# Altium footprint library PowerModule.PcbLib: 13 footprints
Each footprint in its own frame and in the unit in brackets; x right, y up, seen from the top. Pads: shape width x height; smd on the part's side, far side on the other; paste and mask are expansions set on the pad; w line width, h text height; cw(c..) or ccw(c..) is an arc to the next point about the centre after c.
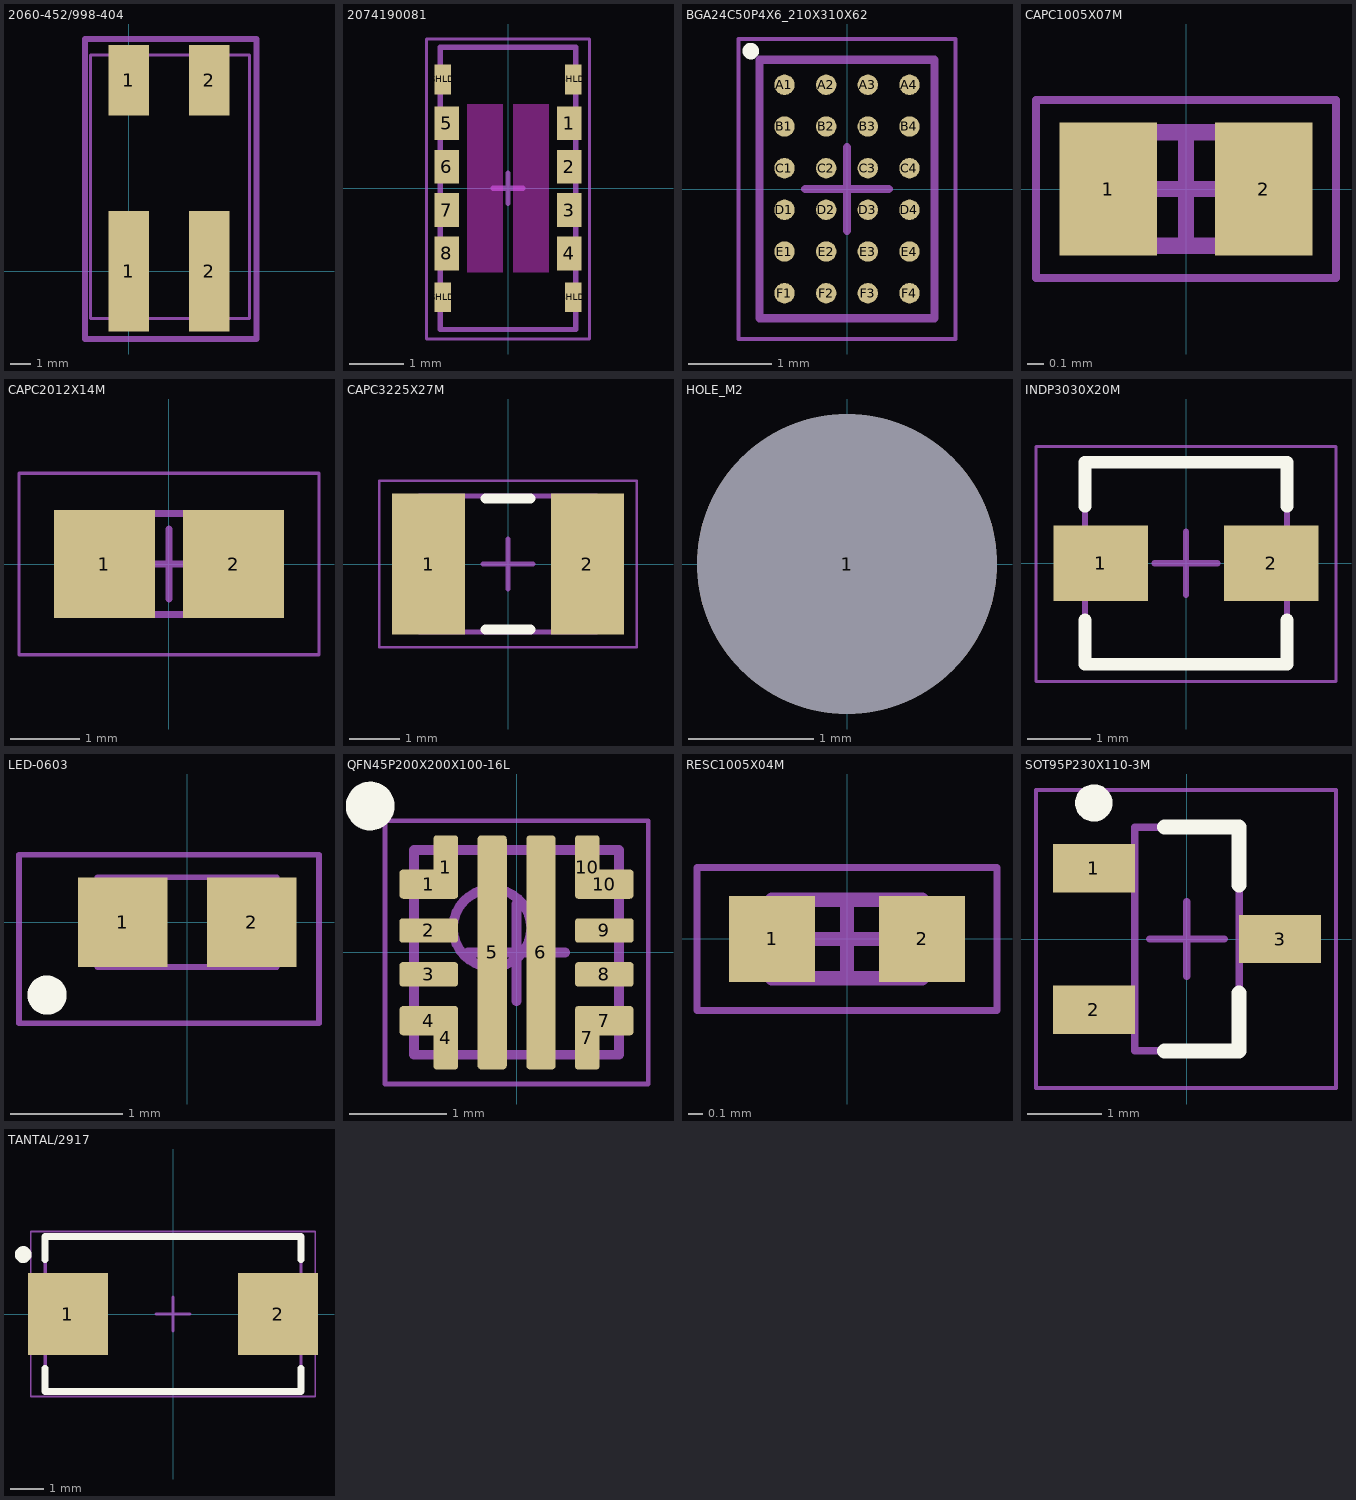
[diagram p0: the footprints below, top view; thin cyan lines are the x and y axes]

## 2060-452/998-404 [mm] "Connector"
height 0.4
pads (4):
  rect 2x6 smd mask+0.05: 1(0,0) 2(4,0)
  rect 2x3.5 smd mask+0.05: 1(0,9.5) 2(4,9.5)
Top Assembly:
  lines w0.15: -1.9,-2.35 6,-2.35 6,10.75 -1.9,10.75 -1.9,-2.35
Top Courtyard:
  lines w0.3: -2.175,-3.375 -2.175,11.55 6.35,11.55 6.35,-3.375 -2.175,-3.375
3D body "2060-452_998-404.stp": height 4.51, standoff 0.01, extent -1.9,-2.35 6,10.75

## 2074190081 [mm] "Connector"
height 0.4
pads (12):
  rect 0.45x0.62 smd mask+0.05: 1(1.125,1.2) 2(1.125,0.4) 3(1.125,-0.4) 4(1.125,-1.2) 5(-1.125,1.2) 6(-1.125,0.4) 7(-1.125,-0.4) 8(-1.125,-1.2)
  rect 0.3x0.55 smd mask+0.05: SHLD(-1.2,-2.005) SHLD(-1.2,2.005) SHLD(1.2,-2.005) SHLD(1.2,2.005)
Top Layer keep-out:
  region: -0.1,1.55 -0.75,1.55 -0.75,-1.55 -0.1,-1.55
  region: 0.1,1.55 0.75,1.55 0.75,-1.55 0.1,-1.55
Top Assembly:
  lines w0.1: -1.25,-2.6 1.25,-2.6 1.25,2.6 -1.25,2.6 -1.25,-2.6
Top Courtyard:
  lines w0.05: -1.5,-2.775 -1.5,2.75 1.5,2.75 1.5,-2.775 -1.5,-2.775
  lines w0.1: -0.275,0 0.275,0 ; 0,-0.275 0,0.275
3D body "2074190081.stp": height 0.74, standoff -0.01, extent -1.25,-2.6 1.25,2.6

## BGA24C50P4X6_210X310X62 [mm] "BGA, 24-Leads, Body 2.10x3.10mmx0.63mm, Pitch 0.50mm"
height 0.63
pads (24):
  round 0.245 smd paste-2539.97 mask+0.05: A1(-0.75,1.25) A2(-0.25,1.25) A3(0.25,1.25) A4(0.75,1.25) B1(-0.75,0.75) B2(-0.25,0.75) B3(0.25,0.75) B4(0.75,0.75) C1(-0.75,0.25) C2(-0.25,0.25) C3(0.25,0.25) C4(0.75,0.25) D1(-0.75,-0.25) D2(-0.25,-0.25) D3(0.25,-0.25) D4(0.75,-0.25) E1(-0.75,-0.75) E2(-0.25,-0.75) E3(0.25,-0.75) E4(0.75,-0.75) F1(-0.75,-1.25) F2(-0.25,-1.25) F3(0.25,-1.25) F4(0.75,-1.25)
Top Overlay:
  circle w0.1: c-1.155,1.655 r0.05
Top Paste:
  drawing of 240 lines, arcs and shapes, not listed
Top 3D Body:
  lines w0.1: -1.05,-1.55 -1.05,1.55 1.05,1.55 1.05,-1.55 -1.05,-1.55
Courtyard:
  lines w0.05: -1.3,-1.8 -1.3,1.8 1.3,1.8 1.3,-1.8 -1.3,-1.8
  lines w0.1: -0.5,0 0.5,0 ; 0,-0.5 0,0.5
3D body: height 0.63, standoff 0.15, extent -1.05,-1.55 1.05,1.55

## CAPC1005X07M [mm] "Chip Capacitor, 2-Leads, Body 1.00x0.50mm, IPC Low Density"
height 0.7
pads (2):
  rect 0.6x0.82 smd: 1(-0.48,0) 2(0.48,0)
Top Assembly:
  lines w0.1: -0.6,-0.35 -0.6,0.35 0.6,0.35 0.6,-0.35 -0.6,-0.35
Top Courtyard:
  lines w0.05: -0.925,-0.55 -0.925,0.55 0.925,0.55 0.925,-0.55 -0.925,-0.55
  lines w0.1: -0.35,0 0.35,0 ; 0,-0.35 0,0.35
3D body: height 0.7, standoff 0, extent -0.35,-0.35 0.35,0.35
3D body: height 0.7, standoff 0, extent -0.6,-0.35 -0.35,0.35
3D body: height 0.7, standoff 0, extent 0.35,-0.35 0.6,0.35

## CAPC2012X14M [mm] "Chip Capacitor, 2-Leads, Body 2.00x1.25mm, IPC Low Density"
height 1.45
pads (2):
  rect 1.45x1.55 smd: 1(-0.925,0) 2(0.925,0)
Top Assembly:
  lines w0.1: -1.1,-0.725 1.1,-0.725 1.1,0.725 -1.1,0.725 -1.1,-0.725
Top Courtyard:
  lines w0.05: -2.15,-1.3 2.15,-1.3 2.15,1.3 -2.15,1.3 -2.15,-1.3
  lines w0.1: -0.5,0 0.5,0 ; 0,-0.5 0,0.5
3D body: height 1.45, standoff 0, extent 0.65,-0.725 1.1,0.725
3D body: height 1.45, standoff 0, extent -1.1,-0.725 -0.65,0.725
3D body: height 1.45, standoff 0, extent -0.65,-0.725 0.65,0.725

## CAPC3225X27M [mm] "Chip Capacitor, 2-Leads, Body 3.20x2.50mm, IPC Low Density"
height 2.7
pads (2):
  rect 1.45x2.8 smd: 1(-1.575,0) 2(1.575,0)
Top Overlay:
  lines w0.2: -0.45,-1.3 0.45,-1.3 ; -0.45,1.3 0.45,1.3
Top Assembly:
  lines w0.1: -1.75,-1.35 -1.75,1.35 1.75,1.35 1.75,-1.35 -1.75,-1.35
Top Courtyard:
  lines w0.05: -2.55,-1.65 -2.55,1.65 2.55,1.65 2.55,-1.65 -2.55,-1.65
  lines w0.1: -0.5,0 0.5,0 ; 0,-0.5 0,0.5
3D body: height 2.7, standoff 0, extent -1.3,-1.35 1.3,1.35
3D body: height 2.7, standoff 0, extent -1.75,-1.35 -1.3,1.35
3D body: height 2.7, standoff 0, extent 1.3,-1.35 1.75,1.35

## HOLE_M2 [mm]
pads (1):
  round 2.4 hole 2.4 unplated: 1(0,0)

## INDP3030X20M [mm] "Precision Wire Wound Inductor, 2-Leads, Body 3.00x3.00mm, IPC Low Density"
height 2
pads (2):
  rect 1.5x1.2 smd: 1(-1.35,0) 2(1.35,0)
Top Overlay:
  lines w0.2: -1.6,-0.9 -1.6,-1.6 1.6,-1.6 1.6,-0.9 ; -1.6,0.9 -1.6,1.6 1.6,1.6 1.6,0.9
Top Assembly:
  lines w0.1: -1.6,-1.6 -1.6,1.6 1.6,1.6 1.6,-1.6 -1.6,-1.6
Top Courtyard:
  lines w0.05: -2.375,-1.875 -2.375,1.85 2.375,1.85 2.375,-1.875 -2.375,-1.875
  lines w0.1: -0.5,0 0.5,0 ; 0,-0.5 0,0.5
3D body "IND_IHLP-1212BZ_VIS.step": height 2.06, standoff 0, extent -1.803,-1.6 1.803,1.6

## LED-0603 [mm] "0603"
height 2.5
pads (2):
  rect 0.8x0.8 smd: 1(-0.575,0) 2(0.575,0)
Top Overlay:
  circle w0.25: c-1.25,-0.65 r0.05
Top Assembly:
  lines w0.05: -0.8,-0.4 0.8,-0.4 0.8,0.4 -0.8,0.4 -0.8,-0.4
Top Courtyard:
  lines w0.05: -1.5,-0.9 1.175,-0.9 1.175,0.6 -1.5,0.6 -1.5,-0.9
3D body "LTST-C191KGKT.step": height 0.56, standoff 0.01, extent -0.8,-0.4 0.8,0.4

## QFN45P200X200X100-16L [mm] "QFN, 16-Leads, Body 2.00x2.00mm, Pitch 0.45mm, IPC High Density"
height 1
pads (14):
  rrect25% 0.6x0.3 smd paste-0.009 mask+0.05: 1(-0.9,0.7) 4(-0.9,-0.7) 7(0.9,-0.7) 10(0.9,0.7)
  rrect25% 0.25x0.65 smd paste-0.009 mask+0.05: 1(-0.725,0.875) 4(-0.725,-0.875) 7(0.725,-0.875) 10(0.725,0.875)
  rrect25% 0.6x0.25 smd mask+0.05: 2(-0.9,0.225) 3(-0.9,-0.225) 8(0.9,-0.225) 9(0.9,0.225)
  rrect25% 0.3x2.4 smd paste-2539.97 mask+0.05: 5(-0.25,0) 6(0.25,0)
Top Overlay:
  circle w0.25: c-1.5,1.5 r0.125
Top Paste:
  region: 0.375,-0.075 0.125,-0.075 0.125,-1.175 0.375,-1.175
  rectangle: 0.125,0.075 0.375,1.175
  region: -0.125,-0.075 -0.375,-0.075 -0.375,-1.175 -0.125,-1.175
  rectangle: -0.375,0.075 -0.125,1.175
Top Assembly:
  circle w0.1: c-0.25,0.25 r0.4
  lines w0.1: -1.05,-1.05 1.05,-1.05 1.05,1.05 -1.05,1.05 -1.05,-1.05
Top Courtyard:
  lines w0.05: -1.35,-1.35 1.35,-1.35 1.35,1.35 -1.35,1.35 -1.35,-1.35
  lines w0.1: -0.5,0 0.5,0 ; 0,-0.5 0,0.5
3D body "RPW0010A.stp": height 1, standoff 0, extent -1,-1 1,1

## RESC1005X04M [mm] "Chip Resistor, 2-Leads, Body 1.00x0.50mm, IPC Low Density"
height 0.4
pads (2):
  rect 0.6x0.6 smd: 1(-0.525,0) 2(0.525,0)
Top Assembly:
  lines w0.1: -0.525,-0.275 0.525,-0.275 0.525,0.275 -0.525,0.275 -0.525,-0.275
Top Courtyard:
  lines w0.05: -1.05,-0.5 1.05,-0.5 1.05,0.5 -1.05,0.5 -1.05,-0.5
  lines w0.1: -0.275,0 0.275,0 ; 0,-0.275 0,0.275
3D body: height 0.4, standoff 0, extent 0.275,-0.275 0.525,0.275
3D body: height 0.4, standoff 0, extent -0.525,-0.275 -0.275,0.275
3D body: height 0.4, standoff 0, extent -0.275,-0.275 0.275,0.275

## SOT95P230X110-3M [mm] "SOT23, 3-Leads, Body 2.90x2.30mm, Pitch 0.95mm, IPC Low Density"
height 1.1
pads (3):
  rect 1.1x0.65 smd mask+0.05: 1(-1.25,0.95) 2(-1.25,-0.95) 3(1.25,0)
Top Overlay:
  circle w0.25: c-1.25,1.825 r0.125
  lines w0.2: -0.3,-1.5 0.7,-1.5 0.7,-0.725 ; -0.3,1.5 0.7,1.5 0.7,0.725
Top Assembly:
  lines w0.1: -0.7,-1.5 0.7,-1.5 0.7,1.5 -0.7,1.5 -0.7,-1.5
Top Courtyard:
  lines w0.05: -2.025,-2 2,-2 2,2 -2.025,2 -2.025,-2
  lines w0.1: -0.5,0 0.5,0 ; 0,-0.5 0,0.5
3D body "SOT23-3.stp": height 1.2, standoff 0.02, extent -1.518,-1.5 1.318,1.5

## TANTAL/2917 [mm] "SODFL, 2-Leads, Body 4.30x7.60mm, IPC Medium Density"
height 2.5
pads (2):
  rect 2.37x2.43 smd: 1(-3.12,0) 2(3.12,0)
Top Overlay:
  circle w0.25: c-4.45,1.765 r0.125
  lines w0.2: -3.8,-1.615 -3.8,-2.3 3.8,-2.3 3.8,-1.615 ; -3.8,1.615 -3.8,2.3 3.8,2.3 3.8,1.615
Top Assembly:
  lines w0.1: -3.8,-2.3 -3.8,2.3 3.8,2.3 3.8,-2.3 -3.8,-2.3
Top Courtyard:
  lines w0.05: -4.225,-2.45 -4.225,2.45 4.225,2.45 4.225,-2.45 -4.225,-2.45
  lines w0.1: -0.5,0 0.5,0 ; 0,-0.5 0,0.5
3D body "T491D227K016AT.step": height 3.11, standoff 0.01, extent -3.65,-2.15 3.65,2.15